# EAGLE library part LM75-8PIN (library Temperature_Breakout)
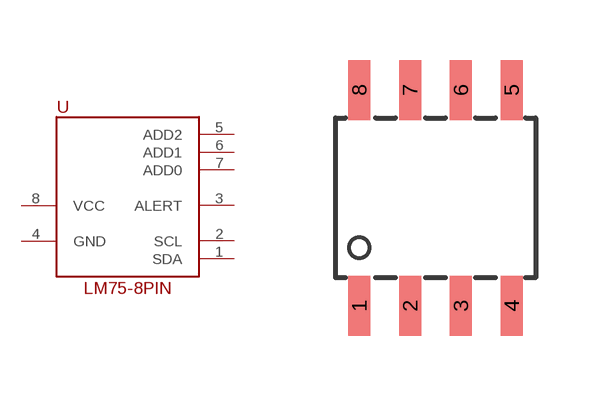
[diagram p0: symbol with the pads of SOIC8; footprint SOIC8]

Designator prefix -

## LM75-8PIN  [SOIC8]
1  SDA
2  SCL
3  ALERT
4  GND
5  ADD2
6  ADD1
7  ADD0
8  VCC

## Footprint SOIC8 (pad centres in mm)
smd 0.55 x 1.5: 1 -1.905,-2.7; 2 -0.635,-2.7; 3 0.635,-2.7; 4 1.905,-2.7; 5 1.905,2.7; 6 0.635,2.7; 7 -0.635,2.7; 8 -1.905,2.7